# EAGLE library part HEADER_BOARD_2 (library Projekt)
Texas Instruments MSP430F1611
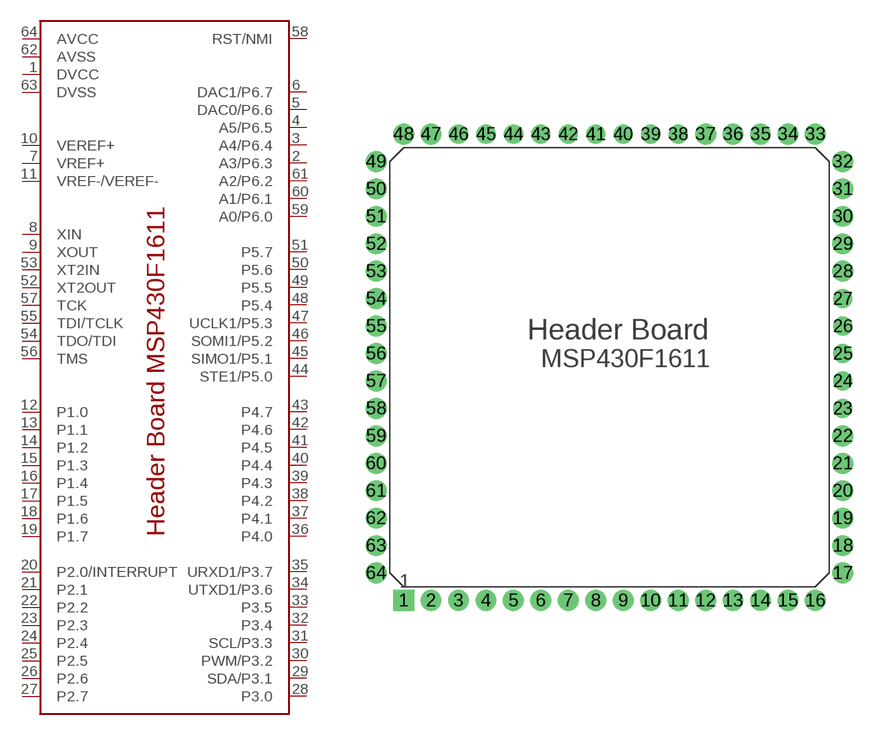
[diagram p0: symbol with the pads of MCKU; footprint MCKU]

Designator prefix -

## HEADER_BOARD_2  [MCKU]
1  DVCC
2  A3/P6.3
3  A4/P6.4
4  A5/P6.5
5  DAC0/P6.6
6  DAC1/P6.7
7  VREF+
8  XIN
9  XOUT
10  VEREF+
11  VREF-/VEREF-
12  P1.0
13  P1.1
14  P1.2
15  P1.3
16  P1.4
17  P1.5
18  P1.6
19  P1.7
20  P2.0/INTERRUPT
21  P2.1
22  P2.2
23  P2.3
24  P2.4
25  P2.5
26  P2.6
27  P2.7
28  P3.0
29  SDA/P3.1
30  PWM/P3.2
31  SCL/P3.3
32  P3.4
33  P3.5
34  UTXD1/P3.6
35  URXD1/P3.7
36  P4.0
37  P4.1
38  P4.2
39  P4.3
40  P4.4
41  P4.5
42  P4.6
43  P4.7
44  STE1/P5.0
45  SIMO1/P5.1
46  SOMI1/P5.2
47  UCLK1/P5.3
48  P5.4
49  P5.5
50  P5.6
51  P5.7
52  XT2OUT
53  XT2IN
54  TDO/TDI
55  TDI/TCLK
56  TMS
57  TCK
58  RST/NMI
59  A0/P6.0
60  A1/P6.1
61  A2/P6.2
62  AVSS
63  DVSS
64  AVCC

## Footprint MCKU (pad centres in mm)
drill 0.8 pad 1.93 square: 1 -22.86,-20.32
drill 0.8 pad 1.93 round: 2 -20.32,-20.32; 3 -17.78,-20.32; 4 -15.24,-20.32; 5 -12.7,-20.32; 6 -10.16,-20.32; 7 -7.62,-20.32; 8 -5.08,-20.32; 9 -2.54,-20.32; 10 0,-20.32; 11 2.54,-20.32; 12 5.08,-20.32; 13 7.62,-20.32; 14 10.16,-20.32; 15 12.7,-20.32; 16 15.24,-20.32; 17 17.78,-17.78; 18 17.78,-15.24; 19 17.78,-12.7; 20 17.78,-10.16; 21 17.78,-7.62; 22 17.78,-5.08; 28 17.78,10.16; 29 17.78,12.7; 30 17.78,15.24; 31 17.78,17.78; 32 17.78,20.32; 33 15.24,22.86; 34 12.7,22.86; 35 10.16,22.86; 36 7.62,22.86; 37 5.08,22.86; 47 -20.32,22.86; 48 -22.86,22.86; 49 -25.4,20.32; 50 -25.4,17.78; 51 -25.4,15.24; 52 -25.4,12.7; 53 -25.4,10.16; 54 -25.4,7.62; 55 -25.4,5.08; 56 -25.4,2.54; 57 -25.4,0; 58 -25.4,-2.54; 59 -25.4,-5.08; 60 -25.4,-7.62; 61 -25.4,-10.16; 62 -25.4,-12.7; 63 -25.4,-15.24; 64 -25.4,-17.78
drill 0.8 pad 1.778 round: 23 17.78,-2.54; 24 17.78,0; 25 17.78,2.54; 26 17.78,5.08; 27 17.78,7.62; 38 2.54,22.86; 39 0,22.86; 40 -2.54,22.86; 41 -5.08,22.86; 42 -7.62,22.86; 43 -10.16,22.86; 44 -12.7,22.86; 45 -15.24,22.86; 46 -17.78,22.86